# Altium schematic symbol library SCH - POWER - MODULE - WURTH MAGI3C FDSM.SCHLIB: 1 symbol
Pins are listed as number, name and electrical type; pins without a type are passive.

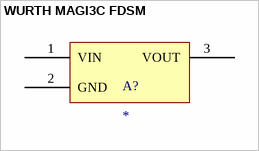
[diagram p0: symbol WURTH MAGI3C FDSM]

## WURTH MAGI3C FDSM
designator A?
pins: 1 VIN, 2 GND, 3 VOUT